# EAGLE library part PL300 (library radiotubes)
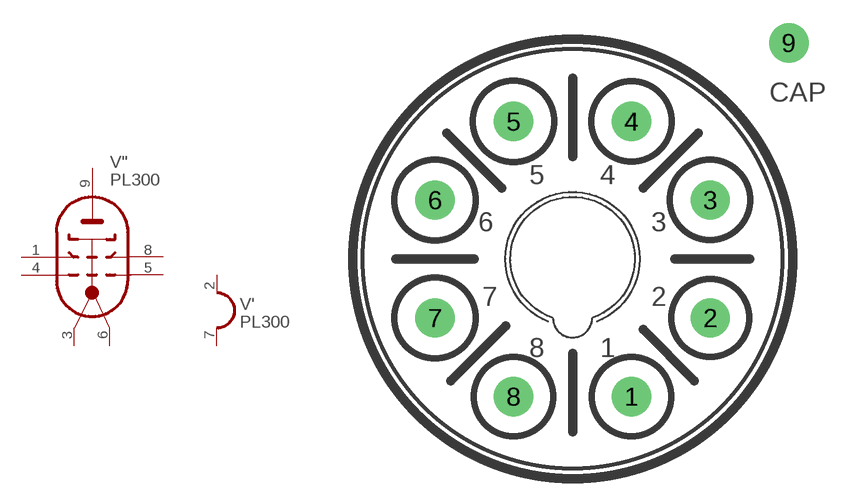
[diagram p116: symbol with the pads of OCTAL-C; footprint OCTAL-C]

Designator prefix V; gates "=PL300 '=HEATER_1

## PL300  [OCTAL-C]
1  ":G2  pas
2  ':H1  pas
3  ":K,G3  pas
4  ":G1  pas
5  ":G1'  pas
6  ":K,G3'  pas
7  ':H2  pas
8  ":G2'  pas
9  ":A  pas

## Footprint OCTAL-C (pad centres in mm)
drill 1.27 pad 2.54: 1 3.81,-8.89; 2 8.89,-3.81; 3 8.89,3.81; 4 3.81,8.89; 5 -3.81,8.89; 6 -8.89,3.81; 7 -8.89,-3.81; 8 -3.81,-8.89; 9 13.97,13.97